# EAGLE library part S-1011N (library U-Ablic-S-1011-voltage-detectors)
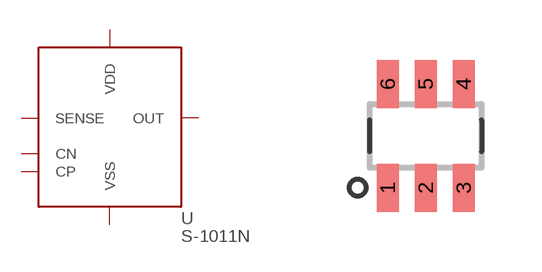
[diagram p0: symbol with the pads of SOT23-6; footprint SOT23-6]

Designator prefix U

## S-1011N  [SOT23-6]
1  VDD  pwr
2  SENSE  in
3  OUT  out
4  CP  pas
5  VSS  pwr
6  CN  pas

## Footprint SOT23-6 (pad centres in mm)
SOT23-6 Specifications: Pin count: 6 Example device(s): MCP4725
smd 0.55 x 1.2: 1 -0.95,-1.3; 2 0,-1.3; 3 0.95,-1.3; 4 0.95,1.3; 5 0,1.3; 6 -0.95,1.3